# Altium footprint library TE_282837 - 10.PcbLib: 1 footprints
Each footprint in its own frame and in the unit in brackets; x right, y up, seen from the top. Pads: shape width x height; smd on the part's side, far side on the other; paste and mask are expansions set on the pad; w line width, h text height; cw(c..) or ccw(c..) is an arc to the next point about the centre after c.
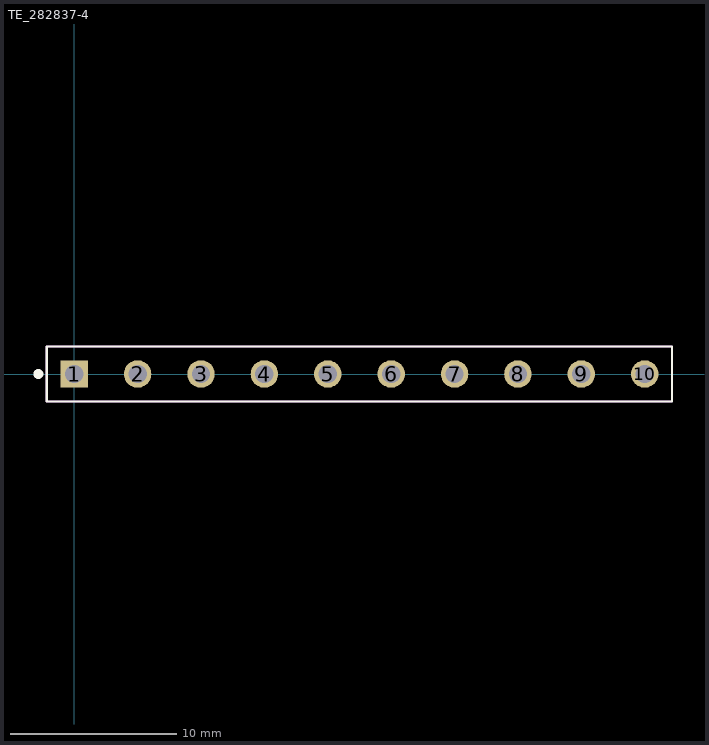
[diagram p0: the footprint, top view; thin cyan lines are the x and y axes]

## TE_282837-4 [mm]
pads (10):
  rect 1.65x1.65 / inner round 1.65 / far side rect 1.65x1.65 hole 1.1: 1(0,0)
  round 1.65 hole 1.1: 2(3.81,0) 3(7.62,0) 4(11.43,0) 5(15.24,0) 6(19.05,0) 7(22.86,0) 8(26.67,0) 9(30.48,0) 10(34.29,0)
Top Overlay:
  circle w0.3: c-2.159,0 r0.15
  lines w0.127: -1.651,-1.651 -1.651,1.651 35.941,1.651 35.941,-1.651 -1.651,-1.651
Mechanical 13:
  circle w0.3: c0,0 r0.15
  lines w0.127: -1.651,-1.651 -1.651,1.651 35.941,1.651 35.941,-1.651 -1.651,-1.651
Mechanical 15:
  lines w0.05: -1.651,-1.651 35.941,-1.651 35.941,1.651 -1.651,1.651 -1.651,-1.651